# EAGLE library part RFID-RC522 (library rfid)
RFID-RC522 MFRC-522 based breakout board
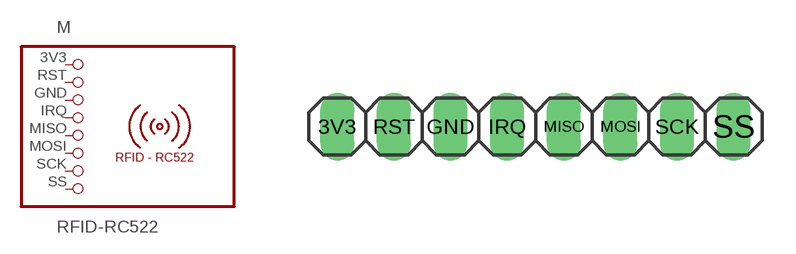
[diagram p0: symbol with the pads of RFID-RC522; footprint RFID-RC522]

Designator prefix M

## RFID-RC522  [RFID-RC522]
3V3  1  pas
GND  3  pas
IRQ  4  pas
MISO  5  pas
MOSI  6  pas
RST  2  pas
SCK  7  pas
SS  8  pas

## Footprint RFID-RC522 (pad centres in mm)
PIN HEADER
drill 1.016 long: 3V3 -8.89,0; GND -3.81,0; IRQ -1.27,0; MISO 1.27,0; MOSI 3.81,0; RST -6.35,0; SCK 6.35,0; SS 8.89,0